# Altium integrated library TPD4E001.IntLib: 2 symbols
Pins are listed as number, name and electrical type; pins without a type are passive.

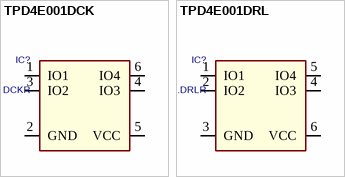
[diagram p0: symbols TPD4E001DCK to TPD4E001DRL]

## TPD4E001DCK
designator IC?, comment TPD4E001DCKR
PDF: http://www.ti.com/lit/ds/symlink/tpd4e001.pdf; ID: TPD4E001DCKR; BUY_LINK: http://www.digikey.com/product-detail/en/TPD4E001DCKR/296-28779-1-ND/2666521; PRICE: 0.49000
footprint SC70-6
pins: 1 IO1, 2 GND, 3 IO2, 4 IO3, 5 VCC, 6 IO4

## TPD4E001DRL
designator IC?, comment TPD4E001DRLR
PDF: http://www.ti.com/lit/ds/symlink/tpd4e001.pdf; ID: TPD4E001DRLR; BUY_LINK: http://www.digikey.com/product-detail/en/TPD4E001DRLR/296-21887-1-ND/1629246; PRICE: 0.68000
footprint 6-SOT
pins: 1 IO1, 2 IO2, 3 GND, 4 IO3, 5 IO4, 6 VCC